# EAGLE library part MDBT40 (library MDBT40_210701)
Raytac Corporation Part Number: (RAM:16kB) MDBT40-256V3 / MDBT40-P256V3 (RAM:32kB) MDBT40-256RV3 / MDBT40-P256RV3 Bluetooth Low Energy Module based on Noridc nRF51822 Size: 18x10mm Source: Raytac datasheet
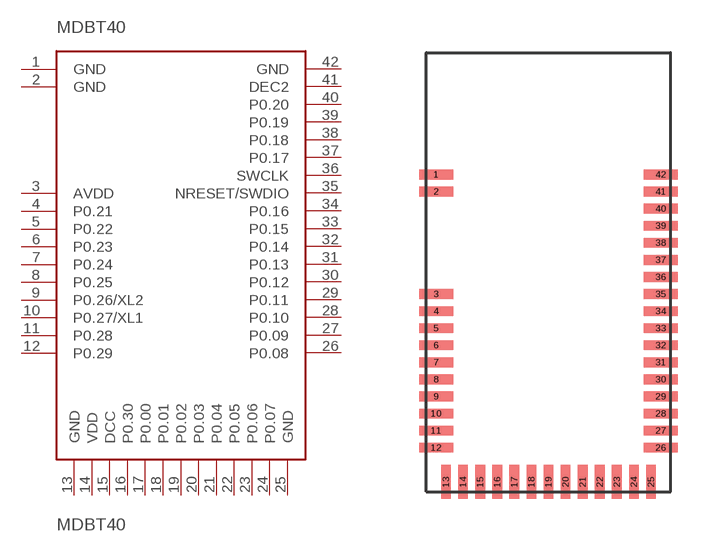
[diagram p0: symbol with the pads of MDBT40; footprint MDBT40]

Designator prefix MDBT40

## MDBT40  [MDBT40]
1  GND
2  GND
3  AVDD
4  P0.21
5  P0.22
6  P0.23
7  P0.24
8  P0.25
9  P0.26/XL2
10  P0.27/XL1
11  P0.28
12  P0.29
13  GND
14  VDD
15  DCC
16  P0.30
17  P0.00
18  P0.01
19  P0.02
20  P0.03
21  P0.04
22  P0.05
23  P0.06
24  P0.07
25  GND
26  P0.08
27  P0.09
28  P0.10
29  P0.11
30  P0.12
31  P0.13
32  P0.14
33  P0.15
34  P0.16
35  NRESET/SWDIO
36  SWCLK
37  P0.17
38  P0.18
39  P0.19
40  P0.20
41  DEC2
42  GND

## Footprint MDBT40 (pad centres in mm)
Raytac Corporation Part Number: (RAM:16kB) MDBT40-256V3 / MDBT40-P256V3 (RAM:32kB) MDBT40-256RV3 / MDBT40-P256RV3 Bluetooth Low Energy Module based on Noridc nRF51822 Size: 18x10mm Source: Raytac datasheet
smd 1.4 x 0.4: 1 -4.6,4; 2 -4.6,3.3; 3 -4.6,-0.9; 4 -4.6,-1.6; 5 -4.6,-2.3; 6 -4.6,-3; 7 -4.6,-3.7; 8 -4.6,-4.4; 9 -4.6,-5.1; 10 -4.6,-5.8; 11 -4.6,-6.5; 12 -4.6,-7.2; 26 4.6,-7.2; 27 4.6,-6.5; 28 4.6,-5.8; 29 4.6,-5.1; 30 4.6,-4.4; 31 4.6,-3.7; 32 4.6,-3; 33 4.6,-2.3; 34 4.6,-1.6; 35 4.6,-0.9; 36 4.6,-0.2; 37 4.6,0.5; 38 4.6,1.2; 39 4.6,1.9; 40 4.6,2.6; 41 4.6,3.3; 42 4.6,4
smd 0.4 x 1.4: 13 -4.2,-8.6; 14 -3.5,-8.6; 15 -2.8,-8.6; 16 -2.1,-8.6; 17 -1.4,-8.6; 18 -0.7,-8.6; 19 0,-8.6; 20 0.7,-8.6; 21 1.4,-8.6; 22 2.1,-8.6; 23 2.8,-8.6; 24 3.5,-8.6; 25 4.2,-8.6